# EAGLE library part 691330300010 (library Wurth_Connectors_WR-TBL Pluggable Connector)
WR-TBL Serie 3303 - 3.81 mm Double Level Vertical Male PCB Header with Flanges KIND PROPERTIES Pitch 3.81 mm MATERIAL PROPERTIES Insulator Material PA66 Insulator Flammability Rating UL94 V-0 Contact Material Brass Contact Plating Tin GENERAL INFORMATION Operating Temperature -40 up to +105 °C Compliance RoHS ELECTRICAL PROPERTIES IR UL 10 A Working Voltage [UL] 300 V (AC) Withstanding Voltage [cULus] 1600 V (AC) Contact Resistance [cULus] 20 mΩ CERTIFICATION cULus Approval E315414 <https://www.we-online.com/catalog/media/o33283v209%20Family_WR-TBL_6913303000xx.jpg> Details see: https://www.we-online.com/catalog/en/TBL_3_81_3303_DOUBLE_LEVEL_VERTICAL_MALE_PCB_HEADER_W_FLANGES_AND_NUT_6913303000XX/ Updated by Ella Wu 2022-07-25 2022(C) Wurth Elektronik
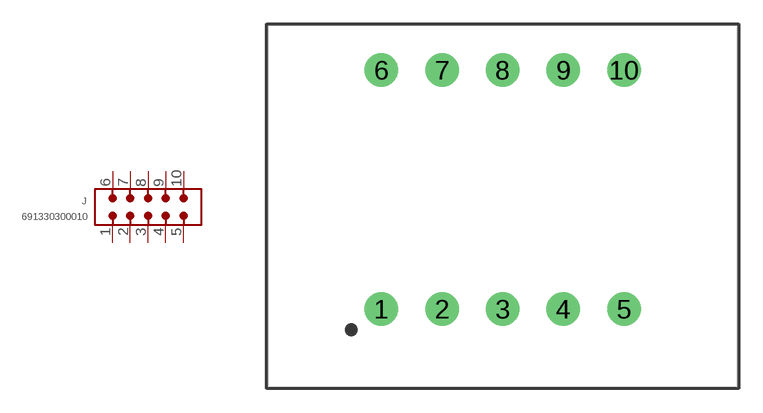
[diagram p36: symbol with the pads of 691330300010; footprint 691330300010]

Designator prefix J

## 691330300010 (DATASHEET-URL: https://www.we-online.com/redexpert/spec/691330300010?ae; IR-UL: 10A; MOUNT: THT; PART-NUMBER: 691330300010; PINS: 10; PITCH: 3.81mm; TYPE: Double Level Vertical; VALUE: 691330300010; WORKING-VOLTAGE-UL: 300V (AC))  [691330300010]
1  1  pas
2  2  pas
3  3  pas
4  4  pas
5  5  pas
6  6  pas
7  7  pas
8  8  pas
9  9  pas
10  10  pas

## Footprint 691330300010 (pad centres in mm)
WR-TBL Serie 3303 - 3.81 mm Double Level Vertical Male PCB Header with Flanges & Nut Type Max Height = 22mm , Pitch 3.81mm , 10pins
drill 1.4: 1 -7.62,-7.5; 2 -3.81,-7.5; 3 0,-7.5; 4 3.81,-7.5; 5 7.62,-7.5; 6 -7.62,7.5; 7 -3.81,7.5; 8 0,7.5; 9 3.81,7.5; 10 7.62,7.5